# EAGLE library part SP232ACP-L (library Exar_By_element14_Batch_1)
RS-232 Line Drivers/Receivers
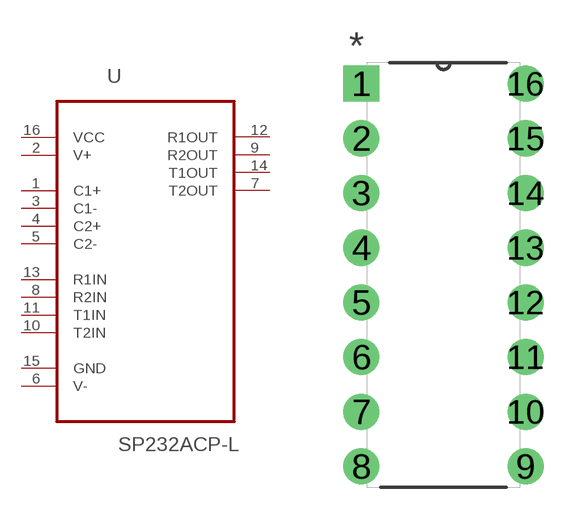
[diagram p3: symbol with the pads of DIP254P762X533-16; footprint DIP254P762X533-16]

Designator prefix U

## SP232ACP-L (MPN: SP232ACP-L; OC_FARNELL: 9386483; OC_NEWARK: 24R0078; PACKAGE: DIP-16; SUPPLIER: Exar)  [DIP254P762X533-16]
1  C1+  pas
2  V+  pwr
3  C1-  pas
4  C2+  pas
5  C2-  pas
6  V-  pwr
7  T2OUT  out
8  R2IN  in
9  R2OUT  out
10  T2IN  in
11  T1IN  in
12  R1OUT  out
13  R1IN  in
14  T1OUT  out
15  GND  pas
16  VCC  pwr

## Footprint DIP254P762X533-16 (pad centres in mm)
drill 1.118 square: 1 -7.62,17.78
drill 1.118: 2 -7.62,15.24; 3 -7.62,12.7; 4 -7.62,10.16; 5 -7.62,7.62; 6 -7.62,5.08; 7 -7.62,2.54; 8 -7.62,0; 9 0,0; 10 0,2.54; 11 0,5.08; 12 0,7.62; 13 0,10.16; 14 0,12.7; 15 0,15.24; 16 0,17.78